# Altium schematic symbol library VR joypad.SchLib: 4 symbols
Pins are listed as number, name and electrical type; pins without a type are passive.

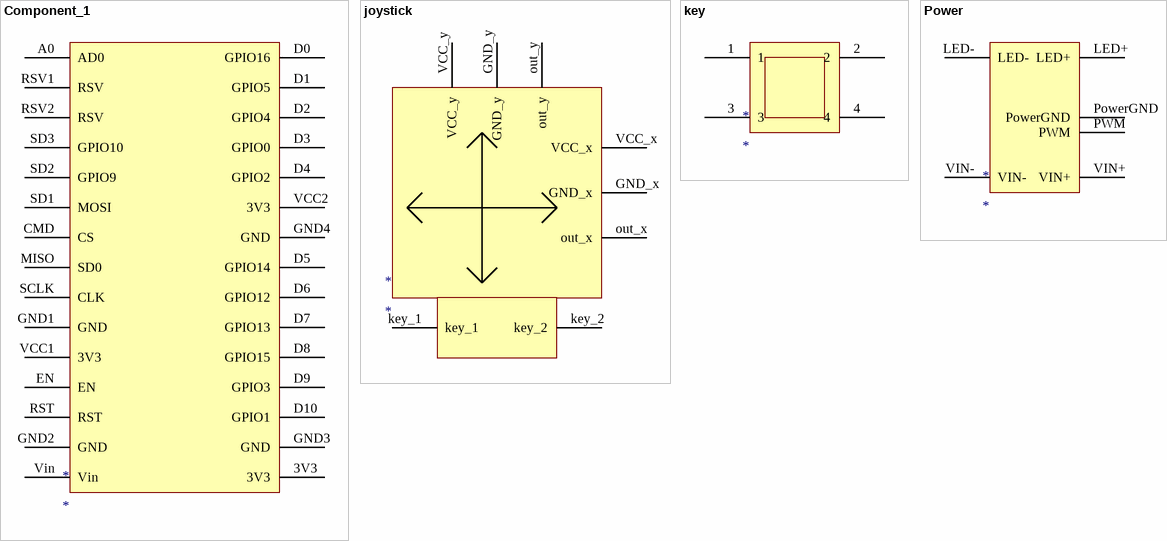
[diagram p0: symbols Component_1 to Power]

## Component_1
designator *
footprint PCBComponent_1
pins: 3V3, A0 AD0, CMD CS, D0 GPIO16, D1 GPIO5, D2 GPIO4, D3 GPIO0, D4 GPIO2, D5 GPIO14, D6 GPIO12, D7 GPIO13, D8 GPIO15, D9 GPIO3, D10 GPIO1, EN EN , GND1 GND, GND2 GND, GND3 GND, GND4 GND, MISO SD0, RST, RSV1 RSV, RSV2 RSV, SCLK CLK, SD1 MOSI, SD2 GPIO9, SD3 GPIO10, VCC1 3V3, VCC2 3V3, Vin

## joystick
designator *
footprint joystick
pins: GND_x, GND_y, key_1, key_2, out_x, out_y, VCC_x, VCC_y

## key
designator *
footprint PCBComponent_1 - duplicate
pins: 1, 2, 3, 4

## Power
designator *
footprint PCBComponent_1
pins: LED+, LED-, PowerGND, PWM, VIN+, VIN-